# Altium schematic symbol library Drivers.SchLib: 1 symbol
Pins are listed as number, name and electrical type; pins without a type are passive.

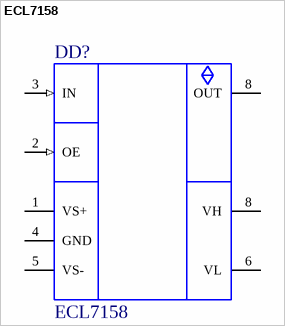
[diagram p0: symbol ECL7158]

## ECL7158
designator DD?
3-st Ultra-High current Pin Driver; ValueSch: ECL7158
pins: 1 VS+ (power) "Suppli", 2 OE (in) "enable", 3 IN (in) "input", 4 GND (power), 5 VS- (power), 6 VL (power), 8 VH (power), 8 OUT (hiz) "VH"